# Altium integrated library Linear Technology PMIC-Switching Reg LT1074-LT8705.IntLib: 2252 symbols (part 32 of 124)
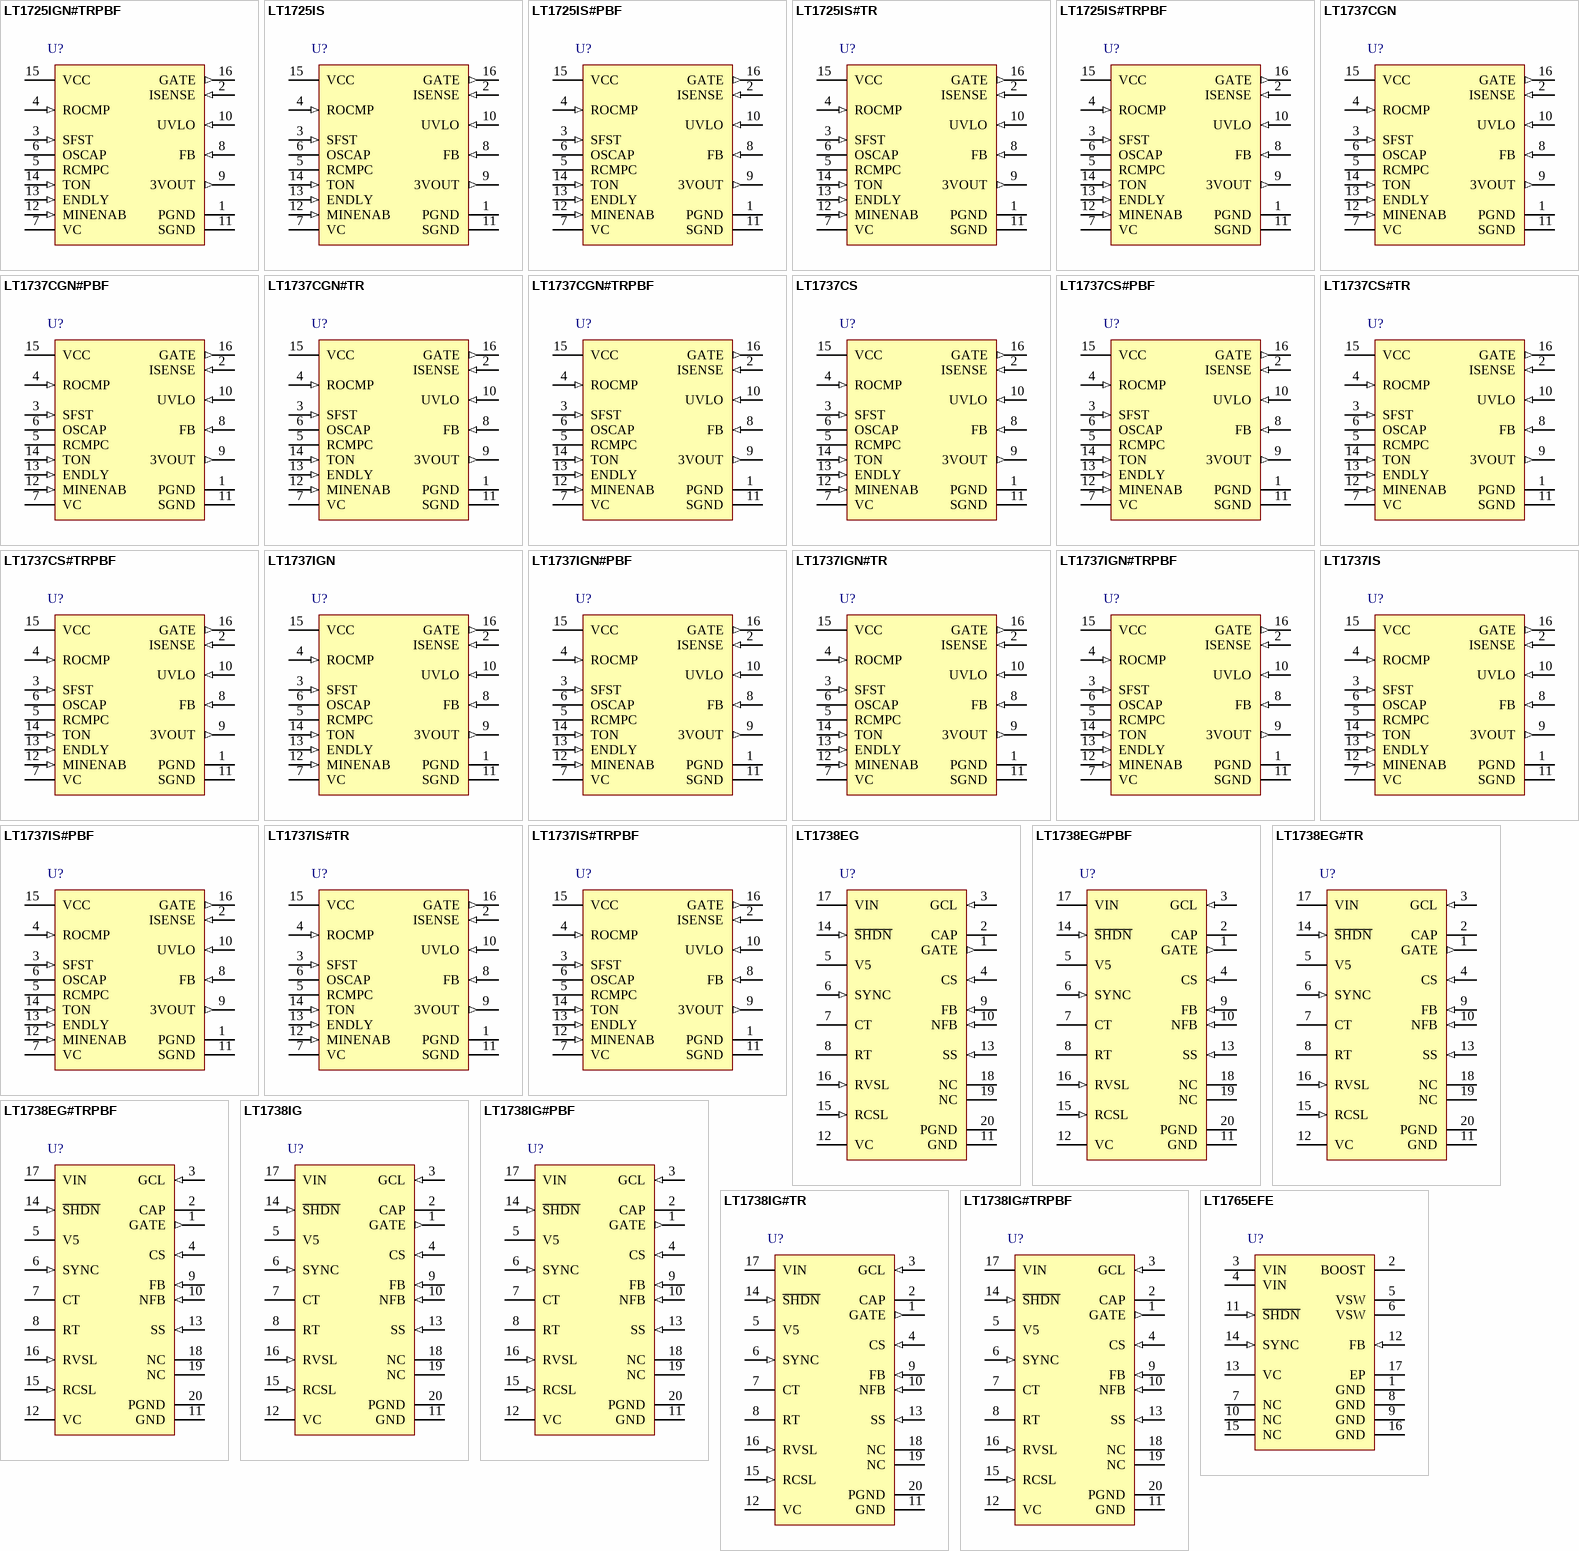
[diagram p102: symbols LT1725IGN#TRPBF to LT1765EFE]

## LT1738EG
designator U?
Slew Rate Controlled Ultralow Noise DC/DC Controller, 20-pin SOP (G-20), -40 to 125 degC; Manufacturer: Linear Technology; PartNumber: LT1738EG; Number of Outputs: 1; PackageReference: G-20; PackageDescription: 20-Pin Plastic SSOP, Body 7.2 x 5.3 mm, Pitch 0.65 mm; Supplier 1: Digi-Key; Supplier Part Number 1: LT1738EG-ND; RoHS: FALSE
footprint LT-G-20_N (SOP, 20-Leads, Body 7.2x5.3mm, Pitch 0.65mm, IPC Medium Density)
footprint LT-G-20_L (SOP, 20-Leads, Body 7.2x5.3mm, Pitch 0.65mm, IPC High Density)
footprint LT-G-20_M (SOP, 20-Leads, Body 7.2x5.3mm, Pitch 0.65mm, IPC Low Density)
pins: 1 GATE (out) "This pin connects to the gate of an external N-channel MOSFET. This driver is capable of sinking and sourcing at least 300mA. The GCL pin sets the upper voltage of the gate drive. The GATE pin will not be activated until VIN (See Datasheet)", 2 CAP "This pin is the feedback node for the external voltage slewing capacitor. Normally a small 1pf to 5pf capacitor is connected from this pin to the drain of the MOSFET. The voltage slew rate is inversely proportional to this (See Datasheet)", 3 GCL (in) "This pin sets the maximum gate voltage to the GATE pin to the MOSFET gate drive. This pin should be either tied to a zener, a voltage source, or VIN. If the pin is tied to a zener or a voltage source, the maximum gate drive (See Datasheet)", 4 CS (in) "This is the input to the current sense amplifier. It is used for both current mode control and current slewing of the external MOSFET. Current sense is accomplished via a sense resistor (RS) connected from the source of the (See Datasheet)", 5 V5 (power) "This pin provides a 5V output that can sink or source 10mA for use by external components. V5 source current comes from VIN . Sink current goes to GND. VIN must be greater than 6.5V in order for this voltage to be in (See Datasheet)", 6 SYNC (in) "The SYNC pin can be used to synchronize the part to an external clock. The oscillator frequency should be set close to the external clock frequency. Synchronizing the clock to an external reference is useful for creating (See Datasheet)", 7 CT "The oscillator capacitor pin is used in conjunction with RT to set the oscillator frequency. For RT = 16.9k: COSC(nf) = 129/fOSC(kHz)", 8 RT "A resistor to ground sets the charge and discharge currents of the oscillator capacitor. The nominal value is 16.9k. It is possible to adjust this resistance +/-25% to set oscillator frequency more accurately.", 9 FB (in) "The feedback pin is used for positive voltage sensing. It is the inverting input to the error amplifier. The noninverting input of this amplifier connects internally to a 1.25V reference. If the voltage on this pin exceeds (See Datasheet)", 10 NFB (in) "The negative feedback pin is used for sensing a negative output voltage. The pin is connected to the inverting input of the negative feedback amplifier through a 100k source resistor. The negative feedback amplifier provides (See Datasheet)", 11 GND (power) "Signal Ground. The internal error amplifier, negative feedback amplifier, oscillator, slew control circuitry, V5 regulator, current sense and the bandgap reference are referred to this ground. Keep the connection to this (See Datasheet)", 12 VC "The compensation pin is used for frequency compensation and current limiting. It is the output of the error amplifier and the input of the current comparator. Loop frequency compensation can be performed with an RC network (See Datasheet)", 13 SS (in) "The SS pin allows for ramping of the switch current threshold at startup. Normally a capacitor is placed on this pin to ground. An internal 9mA current source will charge this capacitor up. The voltage on the VC pin cannot (See Datasheet)", 14 ~{SHDN} (in) "The shutdown pin can disable the switcher. Grounding this pin will disable all internal circuitry. Increasing S\H\D\N\ voltage will initially turn on the internal bandgap regulator. This provides a precision threshold for (See Datasheet)", 15 RCSL (in) "A resistor to ground sets the current slew rate for the external drive MOSFET during switching. The minimum resistor value is 3.3k and the maximum value is 68k. The time to slew between on and off states of the MOSFET (See Datasheet)", 16 RVSL (in) "A resistor to ground sets the voltage slew rate for the drain of the external drive MOSFET. The minimum resistor value is 3.3k and the maximum value is 68k. The time to slew between on and off states on the MOSFET drain (See Datasheet)", 17 VIN (power) "Input Supply. All supply current for the part comes from this pin including gate drive and V5 regulator. Charge current for gate drive can produce current pulses of hundreds of milliamperes. Bypass this pin with a low ESR (See Datasheet)", 18 NC, 19 NC, 20 PGND (power) "Power Driver Ground. This ground comes from the MOSFET gate driver. This pin can have several hundred milliamperes of current on it when the external MOSFET is being turned off."

## LT1738EG#PBF
designator U?
Slew Rate Controlled Ultralow Noise DC/DC Controller, 20-pin SOP (G-20), -40 to 125 degC, Pb-Free; Manufacturer: Linear Technology; PartNumber: LT1738EG#PBF; Number of Outputs: 1; PackageReference: G-20; PackageDescription: 20-Pin Plastic SSOP, Body 7.2 x 5.3 mm, Pitch 0.65 mm; Supplier 1: Digi-Key; Supplier Part Number 1: LT1738EG#PBF-ND; RoHS: TRUE
footprint LT-G-20_N (SOP, 20-Leads, Body 7.2x5.3mm, Pitch 0.65mm, IPC Medium Density)
footprint LT-G-20_L (SOP, 20-Leads, Body 7.2x5.3mm, Pitch 0.65mm, IPC High Density)
footprint LT-G-20_M (SOP, 20-Leads, Body 7.2x5.3mm, Pitch 0.65mm, IPC Low Density)
pins: 1 GATE (out) "This pin connects to the gate of an external N-channel MOSFET. This driver is capable of sinking and sourcing at least 300mA. The GCL pin sets the upper voltage of the gate drive. The GATE pin will not be activated until VIN (See Datasheet)", 2 CAP "This pin is the feedback node for the external voltage slewing capacitor. Normally a small 1pf to 5pf capacitor is connected from this pin to the drain of the MOSFET. The voltage slew rate is inversely proportional to this (See Datasheet)", 3 GCL (in) "This pin sets the maximum gate voltage to the GATE pin to the MOSFET gate drive. This pin should be either tied to a zener, a voltage source, or VIN. If the pin is tied to a zener or a voltage source, the maximum gate drive (See Datasheet)", 4 CS (in) "This is the input to the current sense amplifier. It is used for both current mode control and current slewing of the external MOSFET. Current sense is accomplished via a sense resistor (RS) connected from the source of the (See Datasheet)", 5 V5 (power) "This pin provides a 5V output that can sink or source 10mA for use by external components. V5 source current comes from VIN . Sink current goes to GND. VIN must be greater than 6.5V in order for this voltage to be in (See Datasheet)", 6 SYNC (in) "The SYNC pin can be used to synchronize the part to an external clock. The oscillator frequency should be set close to the external clock frequency. Synchronizing the clock to an external reference is useful for creating (See Datasheet)", 7 CT "The oscillator capacitor pin is used in conjunction with RT to set the oscillator frequency. For RT = 16.9k: COSC(nf) = 129/fOSC(kHz)", 8 RT "A resistor to ground sets the charge and discharge currents of the oscillator capacitor. The nominal value is 16.9k. It is possible to adjust this resistance +/-25% to set oscillator frequency more accurately.", 9 FB (in) "The feedback pin is used for positive voltage sensing. It is the inverting input to the error amplifier. The noninverting input of this amplifier connects internally to a 1.25V reference. If the voltage on this pin exceeds (See Datasheet)", 10 NFB (in) "The negative feedback pin is used for sensing a negative output voltage. The pin is connected to the inverting input of the negative feedback amplifier through a 100k source resistor. The negative feedback amplifier provides (See Datasheet)", 11 GND (power) "Signal Ground. The internal error amplifier, negative feedback amplifier, oscillator, slew control circuitry, V5 regulator, current sense and the bandgap reference are referred to this ground. Keep the connection to this (See Datasheet)", 12 VC "The compensation pin is used for frequency compensation and current limiting. It is the output of the error amplifier and the input of the current comparator. Loop frequency compensation can be performed with an RC network (See Datasheet)", 13 SS (in) "The SS pin allows for ramping of the switch current threshold at startup. Normally a capacitor is placed on this pin to ground. An internal 9mA current source will charge this capacitor up. The voltage on the VC pin cannot (See Datasheet)", 14 ~{SHDN} (in) "The shutdown pin can disable the switcher. Grounding this pin will disable all internal circuitry. Increasing S\H\D\N\ voltage will initially turn on the internal bandgap regulator. This provides a precision threshold for (See Datasheet)", 15 RCSL (in) "A resistor to ground sets the current slew rate for the external drive MOSFET during switching. The minimum resistor value is 3.3k and the maximum value is 68k. The time to slew between on and off states of the MOSFET (See Datasheet)", 16 RVSL (in) "A resistor to ground sets the voltage slew rate for the drain of the external drive MOSFET. The minimum resistor value is 3.3k and the maximum value is 68k. The time to slew between on and off states on the MOSFET drain (See Datasheet)", 17 VIN (power) "Input Supply. All supply current for the part comes from this pin including gate drive and V5 regulator. Charge current for gate drive can produce current pulses of hundreds of milliamperes. Bypass this pin with a low ESR (See Datasheet)", 18 NC, 19 NC, 20 PGND (power) "Power Driver Ground. This ground comes from the MOSFET gate driver. This pin can have several hundred milliamperes of current on it when the external MOSFET is being turned off."

## LT1738EG#TR
designator U?
Slew Rate Controlled Ultralow Noise DC/DC Controller, 20-pin SOP (G-20), -40 to 125 degC, Tape and Reel; Manufacturer: Linear Technology; PartNumber: LT1738EG#TR; Number of Outputs: 1; PackageReference: G-20; PackageDescription: 20-Pin Plastic SSOP, Body 7.2 x 5.3 mm, Pitch 0.65 mm; Supplier 1: Digi-Key; Supplier Part Number 1: LT1738EGTR-ND; RoHS: FALSE
footprint LT-G-20_N (SOP, 20-Leads, Body 7.2x5.3mm, Pitch 0.65mm, IPC Medium Density)
footprint LT-G-20_L (SOP, 20-Leads, Body 7.2x5.3mm, Pitch 0.65mm, IPC High Density)
footprint LT-G-20_M (SOP, 20-Leads, Body 7.2x5.3mm, Pitch 0.65mm, IPC Low Density)
pins: 1 GATE (out) "This pin connects to the gate of an external N-channel MOSFET. This driver is capable of sinking and sourcing at least 300mA. The GCL pin sets the upper voltage of the gate drive. The GATE pin will not be activated until VIN (See Datasheet)", 2 CAP "This pin is the feedback node for the external voltage slewing capacitor. Normally a small 1pf to 5pf capacitor is connected from this pin to the drain of the MOSFET. The voltage slew rate is inversely proportional to this (See Datasheet)", 3 GCL (in) "This pin sets the maximum gate voltage to the GATE pin to the MOSFET gate drive. This pin should be either tied to a zener, a voltage source, or VIN. If the pin is tied to a zener or a voltage source, the maximum gate drive (See Datasheet)", 4 CS (in) "This is the input to the current sense amplifier. It is used for both current mode control and current slewing of the external MOSFET. Current sense is accomplished via a sense resistor (RS) connected from the source of the (See Datasheet)", 5 V5 (power) "This pin provides a 5V output that can sink or source 10mA for use by external components. V5 source current comes from VIN . Sink current goes to GND. VIN must be greater than 6.5V in order for this voltage to be in (See Datasheet)", 6 SYNC (in) "The SYNC pin can be used to synchronize the part to an external clock. The oscillator frequency should be set close to the external clock frequency. Synchronizing the clock to an external reference is useful for creating (See Datasheet)", 7 CT "The oscillator capacitor pin is used in conjunction with RT to set the oscillator frequency. For RT = 16.9k: COSC(nf) = 129/fOSC(kHz)", 8 RT "A resistor to ground sets the charge and discharge currents of the oscillator capacitor. The nominal value is 16.9k. It is possible to adjust this resistance +/-25% to set oscillator frequency more accurately.", 9 FB (in) "The feedback pin is used for positive voltage sensing. It is the inverting input to the error amplifier. The noninverting input of this amplifier connects internally to a 1.25V reference. If the voltage on this pin exceeds (See Datasheet)", 10 NFB (in) "The negative feedback pin is used for sensing a negative output voltage. The pin is connected to the inverting input of the negative feedback amplifier through a 100k source resistor. The negative feedback amplifier provides (See Datasheet)", 11 GND (power) "Signal Ground. The internal error amplifier, negative feedback amplifier, oscillator, slew control circuitry, V5 regulator, current sense and the bandgap reference are referred to this ground. Keep the connection to this (See Datasheet)", 12 VC "The compensation pin is used for frequency compensation and current limiting. It is the output of the error amplifier and the input of the current comparator. Loop frequency compensation can be performed with an RC network (See Datasheet)", 13 SS (in) "The SS pin allows for ramping of the switch current threshold at startup. Normally a capacitor is placed on this pin to ground. An internal 9mA current source will charge this capacitor up. The voltage on the VC pin cannot (See Datasheet)", 14 ~{SHDN} (in) "The shutdown pin can disable the switcher. Grounding this pin will disable all internal circuitry. Increasing S\H\D\N\ voltage will initially turn on the internal bandgap regulator. This provides a precision threshold for (See Datasheet)", 15 RCSL (in) "A resistor to ground sets the current slew rate for the external drive MOSFET during switching. The minimum resistor value is 3.3k and the maximum value is 68k. The time to slew between on and off states of the MOSFET (See Datasheet)", 16 RVSL (in) "A resistor to ground sets the voltage slew rate for the drain of the external drive MOSFET. The minimum resistor value is 3.3k and the maximum value is 68k. The time to slew between on and off states on the MOSFET drain (See Datasheet)", 17 VIN (power) "Input Supply. All supply current for the part comes from this pin including gate drive and V5 regulator. Charge current for gate drive can produce current pulses of hundreds of milliamperes. Bypass this pin with a low ESR (See Datasheet)", 18 NC, 19 NC, 20 PGND (power) "Power Driver Ground. This ground comes from the MOSFET gate driver. This pin can have several hundred milliamperes of current on it when the external MOSFET is being turned off."

## LT1738EG#TRPBF
designator U?
Slew Rate Controlled Ultralow Noise DC/DC Controller, 20-pin SOP (G-20), -40 to 125 degC, Pb-Free, Tape and Reel; Manufacturer: Linear Technology; PartNumber: LT1738EG#TRPBF; Number of Outputs: 1; PackageReference: G-20; PackageDescription: 20-Pin Plastic SSOP, Body 7.2 x 5.3 mm, Pitch 0.65 mm; Supplier 1: Digi-Key; Supplier Part Number 1: LT1738EG#TRPBF-ND; RoHS: TRUE
footprint LT-G-20_N (SOP, 20-Leads, Body 7.2x5.3mm, Pitch 0.65mm, IPC Medium Density)
footprint LT-G-20_L (SOP, 20-Leads, Body 7.2x5.3mm, Pitch 0.65mm, IPC High Density)
footprint LT-G-20_M (SOP, 20-Leads, Body 7.2x5.3mm, Pitch 0.65mm, IPC Low Density)
pins: 1 GATE (out) "This pin connects to the gate of an external N-channel MOSFET. This driver is capable of sinking and sourcing at least 300mA. The GCL pin sets the upper voltage of the gate drive. The GATE pin will not be activated until VIN (See Datasheet)", 2 CAP "This pin is the feedback node for the external voltage slewing capacitor. Normally a small 1pf to 5pf capacitor is connected from this pin to the drain of the MOSFET. The voltage slew rate is inversely proportional to this (See Datasheet)", 3 GCL (in) "This pin sets the maximum gate voltage to the GATE pin to the MOSFET gate drive. This pin should be either tied to a zener, a voltage source, or VIN. If the pin is tied to a zener or a voltage source, the maximum gate drive (See Datasheet)", 4 CS (in) "This is the input to the current sense amplifier. It is used for both current mode control and current slewing of the external MOSFET. Current sense is accomplished via a sense resistor (RS) connected from the source of the (See Datasheet)", 5 V5 (power) "This pin provides a 5V output that can sink or source 10mA for use by external components. V5 source current comes from VIN . Sink current goes to GND. VIN must be greater than 6.5V in order for this voltage to be in (See Datasheet)", 6 SYNC (in) "The SYNC pin can be used to synchronize the part to an external clock. The oscillator frequency should be set close to the external clock frequency. Synchronizing the clock to an external reference is useful for creating (See Datasheet)", 7 CT "The oscillator capacitor pin is used in conjunction with RT to set the oscillator frequency. For RT = 16.9k: COSC(nf) = 129/fOSC(kHz)", 8 RT "A resistor to ground sets the charge and discharge currents of the oscillator capacitor. The nominal value is 16.9k. It is possible to adjust this resistance +/-25% to set oscillator frequency more accurately.", 9 FB (in) "The feedback pin is used for positive voltage sensing. It is the inverting input to the error amplifier. The noninverting input of this amplifier connects internally to a 1.25V reference. If the voltage on this pin exceeds (See Datasheet)", 10 NFB (in) "The negative feedback pin is used for sensing a negative output voltage. The pin is connected to the inverting input of the negative feedback amplifier through a 100k source resistor. The negative feedback amplifier provides (See Datasheet)", 11 GND (power) "Signal Ground. The internal error amplifier, negative feedback amplifier, oscillator, slew control circuitry, V5 regulator, current sense and the bandgap reference are referred to this ground. Keep the connection to this (See Datasheet)", 12 VC "The compensation pin is used for frequency compensation and current limiting. It is the output of the error amplifier and the input of the current comparator. Loop frequency compensation can be performed with an RC network (See Datasheet)", 13 SS (in) "The SS pin allows for ramping of the switch current threshold at startup. Normally a capacitor is placed on this pin to ground. An internal 9mA current source will charge this capacitor up. The voltage on the VC pin cannot (See Datasheet)", 14 ~{SHDN} (in) "The shutdown pin can disable the switcher. Grounding this pin will disable all internal circuitry. Increasing S\H\D\N\ voltage will initially turn on the internal bandgap regulator. This provides a precision threshold for (See Datasheet)", 15 RCSL (in) "A resistor to ground sets the current slew rate for the external drive MOSFET during switching. The minimum resistor value is 3.3k and the maximum value is 68k. The time to slew between on and off states of the MOSFET (See Datasheet)", 16 RVSL (in) "A resistor to ground sets the voltage slew rate for the drain of the external drive MOSFET. The minimum resistor value is 3.3k and the maximum value is 68k. The time to slew between on and off states on the MOSFET drain (See Datasheet)", 17 VIN (power) "Input Supply. All supply current for the part comes from this pin including gate drive and V5 regulator. Charge current for gate drive can produce current pulses of hundreds of milliamperes. Bypass this pin with a low ESR (See Datasheet)", 18 NC, 19 NC, 20 PGND (power) "Power Driver Ground. This ground comes from the MOSFET gate driver. This pin can have several hundred milliamperes of current on it when the external MOSFET is being turned off."

## LT1738IG
designator U?
Slew Rate Controlled Ultralow Noise DC/DC Controller, 20-pin SOP (G-20), -40 to 125 degC; Manufacturer: Linear Technology; PartNumber: LT1738IG; Number of Outputs: 1; PackageReference: G-20; PackageDescription: 20-Pin Plastic SSOP, Body 7.2 x 5.3 mm, Pitch 0.65 mm; Supplier 1: Digi-Key; Supplier Part Number 1: LT1738IG-ND; RoHS: FALSE
footprint LT-G-20_N (SOP, 20-Leads, Body 7.2x5.3mm, Pitch 0.65mm, IPC Medium Density)
footprint LT-G-20_L (SOP, 20-Leads, Body 7.2x5.3mm, Pitch 0.65mm, IPC High Density)
footprint LT-G-20_M (SOP, 20-Leads, Body 7.2x5.3mm, Pitch 0.65mm, IPC Low Density)
pins: 1 GATE (out) "This pin connects to the gate of an external N-channel MOSFET. This driver is capable of sinking and sourcing at least 300mA. The GCL pin sets the upper voltage of the gate drive. The GATE pin will not be activated until VIN (See Datasheet)", 2 CAP "This pin is the feedback node for the external voltage slewing capacitor. Normally a small 1pf to 5pf capacitor is connected from this pin to the drain of the MOSFET. The voltage slew rate is inversely proportional to this (See Datasheet)", 3 GCL (in) "This pin sets the maximum gate voltage to the GATE pin to the MOSFET gate drive. This pin should be either tied to a zener, a voltage source, or VIN. If the pin is tied to a zener or a voltage source, the maximum gate drive (See Datasheet)", 4 CS (in) "This is the input to the current sense amplifier. It is used for both current mode control and current slewing of the external MOSFET. Current sense is accomplished via a sense resistor (RS) connected from the source of the (See Datasheet)", 5 V5 (power) "This pin provides a 5V output that can sink or source 10mA for use by external components. V5 source current comes from VIN . Sink current goes to GND. VIN must be greater than 6.5V in order for this voltage to be in (See Datasheet)", 6 SYNC (in) "The SYNC pin can be used to synchronize the part to an external clock. The oscillator frequency should be set close to the external clock frequency. Synchronizing the clock to an external reference is useful for creating (See Datasheet)", 7 CT "The oscillator capacitor pin is used in conjunction with RT to set the oscillator frequency. For RT = 16.9k: COSC(nf) = 129/fOSC(kHz)", 8 RT "A resistor to ground sets the charge and discharge currents of the oscillator capacitor. The nominal value is 16.9k. It is possible to adjust this resistance +/-25% to set oscillator frequency more accurately.", 9 FB (in) "The feedback pin is used for positive voltage sensing. It is the inverting input to the error amplifier. The noninverting input of this amplifier connects internally to a 1.25V reference. If the voltage on this pin exceeds (See Datasheet)", 10 NFB (in) "The negative feedback pin is used for sensing a negative output voltage. The pin is connected to the inverting input of the negative feedback amplifier through a 100k source resistor. The negative feedback amplifier provides (See Datasheet)", 11 GND (power) "Signal Ground. The internal error amplifier, negative feedback amplifier, oscillator, slew control circuitry, V5 regulator, current sense and the bandgap reference are referred to this ground. Keep the connection to this (See Datasheet)", 12 VC "The compensation pin is used for frequency compensation and current limiting. It is the output of the error amplifier and the input of the current comparator. Loop frequency compensation can be performed with an RC network (See Datasheet)", 13 SS (in) "The SS pin allows for ramping of the switch current threshold at startup. Normally a capacitor is placed on this pin to ground. An internal 9mA current source will charge this capacitor up. The voltage on the VC pin cannot (See Datasheet)", 14 ~{SHDN} (in) "The shutdown pin can disable the switcher. Grounding this pin will disable all internal circuitry. Increasing S\H\D\N\ voltage will initially turn on the internal bandgap regulator. This provides a precision threshold for (See Datasheet)", 15 RCSL (in) "A resistor to ground sets the current slew rate for the external drive MOSFET during switching. The minimum resistor value is 3.3k and the maximum value is 68k. The time to slew between on and off states of the MOSFET (See Datasheet)", 16 RVSL (in) "A resistor to ground sets the voltage slew rate for the drain of the external drive MOSFET. The minimum resistor value is 3.3k and the maximum value is 68k. The time to slew between on and off states on the MOSFET drain (See Datasheet)", 17 VIN (power) "Input Supply. All supply current for the part comes from this pin including gate drive and V5 regulator. Charge current for gate drive can produce current pulses of hundreds of milliamperes. Bypass this pin with a low ESR (See Datasheet)", 18 NC, 19 NC, 20 PGND (power) "Power Driver Ground. This ground comes from the MOSFET gate driver. This pin can have several hundred milliamperes of current on it when the external MOSFET is being turned off."

## LT1738IG#PBF
designator U?
Slew Rate Controlled Ultralow Noise DC/DC Controller, 20-pin SOP (G-20), -40 to 125 degC, Pb-Free; Manufacturer: Linear Technology; PartNumber: LT1738IG#PBF; Number of Outputs: 1; PackageReference: G-20; PackageDescription: 20-Pin Plastic SSOP, Body 7.2 x 5.3 mm, Pitch 0.65 mm; Supplier 1: Digi-Key; Supplier Part Number 1: LT1738IG#PBF-ND; RoHS: TRUE
footprint LT-G-20_N (SOP, 20-Leads, Body 7.2x5.3mm, Pitch 0.65mm, IPC Medium Density)
footprint LT-G-20_L (SOP, 20-Leads, Body 7.2x5.3mm, Pitch 0.65mm, IPC High Density)
footprint LT-G-20_M (SOP, 20-Leads, Body 7.2x5.3mm, Pitch 0.65mm, IPC Low Density)
pins: 1 GATE (out) "This pin connects to the gate of an external N-channel MOSFET. This driver is capable of sinking and sourcing at least 300mA. The GCL pin sets the upper voltage of the gate drive. The GATE pin will not be activated until VIN (See Datasheet)", 2 CAP "This pin is the feedback node for the external voltage slewing capacitor. Normally a small 1pf to 5pf capacitor is connected from this pin to the drain of the MOSFET. The voltage slew rate is inversely proportional to this (See Datasheet)", 3 GCL (in) "This pin sets the maximum gate voltage to the GATE pin to the MOSFET gate drive. This pin should be either tied to a zener, a voltage source, or VIN. If the pin is tied to a zener or a voltage source, the maximum gate drive (See Datasheet)", 4 CS (in) "This is the input to the current sense amplifier. It is used for both current mode control and current slewing of the external MOSFET. Current sense is accomplished via a sense resistor (RS) connected from the source of the (See Datasheet)", 5 V5 (power) "This pin provides a 5V output that can sink or source 10mA for use by external components. V5 source current comes from VIN . Sink current goes to GND. VIN must be greater than 6.5V in order for this voltage to be in (See Datasheet)", 6 SYNC (in) "The SYNC pin can be used to synchronize the part to an external clock. The oscillator frequency should be set close to the external clock frequency. Synchronizing the clock to an external reference is useful for creating (See Datasheet)", 7 CT "The oscillator capacitor pin is used in conjunction with RT to set the oscillator frequency. For RT = 16.9k: COSC(nf) = 129/fOSC(kHz)", 8 RT "A resistor to ground sets the charge and discharge currents of the oscillator capacitor. The nominal value is 16.9k. It is possible to adjust this resistance +/-25% to set oscillator frequency more accurately.", 9 FB (in) "The feedback pin is used for positive voltage sensing. It is the inverting input to the error amplifier. The noninverting input of this amplifier connects internally to a 1.25V reference. If the voltage on this pin exceeds (See Datasheet)", 10 NFB (in) "The negative feedback pin is used for sensing a negative output voltage. The pin is connected to the inverting input of the negative feedback amplifier through a 100k source resistor. The negative feedback amplifier provides (See Datasheet)", 11 GND (power) "Signal Ground. The internal error amplifier, negative feedback amplifier, oscillator, slew control circuitry, V5 regulator, current sense and the bandgap reference are referred to this ground. Keep the connection to this (See Datasheet)", 12 VC "The compensation pin is used for frequency compensation and current limiting. It is the output of the error amplifier and the input of the current comparator. Loop frequency compensation can be performed with an RC network (See Datasheet)", 13 SS (in) "The SS pin allows for ramping of the switch current threshold at startup. Normally a capacitor is placed on this pin to ground. An internal 9mA current source will charge this capacitor up. The voltage on the VC pin cannot (See Datasheet)", 14 ~{SHDN} (in) "The shutdown pin can disable the switcher. Grounding this pin will disable all internal circuitry. Increasing S\H\D\N\ voltage will initially turn on the internal bandgap regulator. This provides a precision threshold for (See Datasheet)", 15 RCSL (in) "A resistor to ground sets the current slew rate for the external drive MOSFET during switching. The minimum resistor value is 3.3k and the maximum value is 68k. The time to slew between on and off states of the MOSFET (See Datasheet)", 16 RVSL (in) "A resistor to ground sets the voltage slew rate for the drain of the external drive MOSFET. The minimum resistor value is 3.3k and the maximum value is 68k. The time to slew between on and off states on the MOSFET drain (See Datasheet)", 17 VIN (power) "Input Supply. All supply current for the part comes from this pin including gate drive and V5 regulator. Charge current for gate drive can produce current pulses of hundreds of milliamperes. Bypass this pin with a low ESR (See Datasheet)", 18 NC, 19 NC, 20 PGND (power) "Power Driver Ground. This ground comes from the MOSFET gate driver. This pin can have several hundred milliamperes of current on it when the external MOSFET is being turned off."

## LT1738IG#TR
designator U?
Slew Rate Controlled Ultralow Noise DC/DC Controller, 20-pin SOP (G-20), -40 to 125 degC, Tape and Reel; Manufacturer: Linear Technology; PartNumber: LT1738IG#TR; Number of Outputs: 1; PackageReference: G-20; PackageDescription: 20-Pin Plastic SSOP, Body 7.2 x 5.3 mm, Pitch 0.65 mm; Supplier 1: Digi-Key; Supplier Part Number 1: LT1738IGTR-ND; RoHS: FALSE
footprint LT-G-20_N (SOP, 20-Leads, Body 7.2x5.3mm, Pitch 0.65mm, IPC Medium Density)
footprint LT-G-20_L (SOP, 20-Leads, Body 7.2x5.3mm, Pitch 0.65mm, IPC High Density)
footprint LT-G-20_M (SOP, 20-Leads, Body 7.2x5.3mm, Pitch 0.65mm, IPC Low Density)
pins: 1 GATE (out) "This pin connects to the gate of an external N-channel MOSFET. This driver is capable of sinking and sourcing at least 300mA. The GCL pin sets the upper voltage of the gate drive. The GATE pin will not be activated until VIN (See Datasheet)", 2 CAP "This pin is the feedback node for the external voltage slewing capacitor. Normally a small 1pf to 5pf capacitor is connected from this pin to the drain of the MOSFET. The voltage slew rate is inversely proportional to this (See Datasheet)", 3 GCL (in) "This pin sets the maximum gate voltage to the GATE pin to the MOSFET gate drive. This pin should be either tied to a zener, a voltage source, or VIN. If the pin is tied to a zener or a voltage source, the maximum gate drive (See Datasheet)", 4 CS (in) "This is the input to the current sense amplifier. It is used for both current mode control and current slewing of the external MOSFET. Current sense is accomplished via a sense resistor (RS) connected from the source of the (See Datasheet)", 5 V5 (power) "This pin provides a 5V output that can sink or source 10mA for use by external components. V5 source current comes from VIN . Sink current goes to GND. VIN must be greater than 6.5V in order for this voltage to be in (See Datasheet)", 6 SYNC (in) "The SYNC pin can be used to synchronize the part to an external clock. The oscillator frequency should be set close to the external clock frequency. Synchronizing the clock to an external reference is useful for creating (See Datasheet)", 7 CT "The oscillator capacitor pin is used in conjunction with RT to set the oscillator frequency. For RT = 16.9k: COSC(nf) = 129/fOSC(kHz)", 8 RT "A resistor to ground sets the charge and discharge currents of the oscillator capacitor. The nominal value is 16.9k. It is possible to adjust this resistance +/-25% to set oscillator frequency more accurately.", 9 FB (in) "The feedback pin is used for positive voltage sensing. It is the inverting input to the error amplifier. The noninverting input of this amplifier connects internally to a 1.25V reference. If the voltage on this pin exceeds (See Datasheet)", 10 NFB (in) "The negative feedback pin is used for sensing a negative output voltage. The pin is connected to the inverting input of the negative feedback amplifier through a 100k source resistor. The negative feedback amplifier provides (See Datasheet)", 11 GND (power) "Signal Ground. The internal error amplifier, negative feedback amplifier, oscillator, slew control circuitry, V5 regulator, current sense and the bandgap reference are referred to this ground. Keep the connection to this (See Datasheet)", 12 VC "The compensation pin is used for frequency compensation and current limiting. It is the output of the error amplifier and the input of the current comparator. Loop frequency compensation can be performed with an RC network (See Datasheet)", 13 SS (in) "The SS pin allows for ramping of the switch current threshold at startup. Normally a capacitor is placed on this pin to ground. An internal 9mA current source will charge this capacitor up. The voltage on the VC pin cannot (See Datasheet)", 14 ~{SHDN} (in) "The shutdown pin can disable the switcher. Grounding this pin will disable all internal circuitry. Increasing S\H\D\N\ voltage will initially turn on the internal bandgap regulator. This provides a precision threshold for (See Datasheet)", 15 RCSL (in) "A resistor to ground sets the current slew rate for the external drive MOSFET during switching. The minimum resistor value is 3.3k and the maximum value is 68k. The time to slew between on and off states of the MOSFET (See Datasheet)", 16 RVSL (in) "A resistor to ground sets the voltage slew rate for the drain of the external drive MOSFET. The minimum resistor value is 3.3k and the maximum value is 68k. The time to slew between on and off states on the MOSFET drain (See Datasheet)", 17 VIN (power) "Input Supply. All supply current for the part comes from this pin including gate drive and V5 regulator. Charge current for gate drive can produce current pulses of hundreds of milliamperes. Bypass this pin with a low ESR (See Datasheet)", 18 NC, 19 NC, 20 PGND (power) "Power Driver Ground. This ground comes from the MOSFET gate driver. This pin can have several hundred milliamperes of current on it when the external MOSFET is being turned off."

## LT1738IG#TRPBF
designator U?
Slew Rate Controlled Ultralow Noise DC/DC Controller, 20-pin SOP (G-20), -40 to 125 degC, Pb-Free, Tape and Reel; Manufacturer: Linear Technology; PartNumber: LT1738IG#TRPBF; Number of Outputs: 1; PackageReference: G-20; PackageDescription: 20-Pin Plastic SSOP, Body 7.2 x 5.3 mm, Pitch 0.65 mm; Supplier 1: Digi-Key; Supplier Part Number 1: LT1738IG#TRPBF-ND; RoHS: TRUE
footprint LT-G-20_N (SOP, 20-Leads, Body 7.2x5.3mm, Pitch 0.65mm, IPC Medium Density)
footprint LT-G-20_L (SOP, 20-Leads, Body 7.2x5.3mm, Pitch 0.65mm, IPC High Density)
footprint LT-G-20_M (SOP, 20-Leads, Body 7.2x5.3mm, Pitch 0.65mm, IPC Low Density)
pins: 1 GATE (out) "This pin connects to the gate of an external N-channel MOSFET. This driver is capable of sinking and sourcing at least 300mA. The GCL pin sets the upper voltage of the gate drive. The GATE pin will not be activated until VIN (See Datasheet)", 2 CAP "This pin is the feedback node for the external voltage slewing capacitor. Normally a small 1pf to 5pf capacitor is connected from this pin to the drain of the MOSFET. The voltage slew rate is inversely proportional to this (See Datasheet)", 3 GCL (in) "This pin sets the maximum gate voltage to the GATE pin to the MOSFET gate drive. This pin should be either tied to a zener, a voltage source, or VIN. If the pin is tied to a zener or a voltage source, the maximum gate drive (See Datasheet)", 4 CS (in) "This is the input to the current sense amplifier. It is used for both current mode control and current slewing of the external MOSFET. Current sense is accomplished via a sense resistor (RS) connected from the source of the (See Datasheet)", 5 V5 (power) "This pin provides a 5V output that can sink or source 10mA for use by external components. V5 source current comes from VIN . Sink current goes to GND. VIN must be greater than 6.5V in order for this voltage to be in (See Datasheet)", 6 SYNC (in) "The SYNC pin can be used to synchronize the part to an external clock. The oscillator frequency should be set close to the external clock frequency. Synchronizing the clock to an external reference is useful for creating (See Datasheet)", 7 CT "The oscillator capacitor pin is used in conjunction with RT to set the oscillator frequency. For RT = 16.9k: COSC(nf) = 129/fOSC(kHz)", 8 RT "A resistor to ground sets the charge and discharge currents of the oscillator capacitor. The nominal value is 16.9k. It is possible to adjust this resistance +/-25% to set oscillator frequency more accurately.", 9 FB (in) "The feedback pin is used for positive voltage sensing. It is the inverting input to the error amplifier. The noninverting input of this amplifier connects internally to a 1.25V reference. If the voltage on this pin exceeds (See Datasheet)", 10 NFB (in) "The negative feedback pin is used for sensing a negative output voltage. The pin is connected to the inverting input of the negative feedback amplifier through a 100k source resistor. The negative feedback amplifier provides (See Datasheet)", 11 GND (power) "Signal Ground. The internal error amplifier, negative feedback amplifier, oscillator, slew control circuitry, V5 regulator, current sense and the bandgap reference are referred to this ground. Keep the connection to this (See Datasheet)", 12 VC "The compensation pin is used for frequency compensation and current limiting. It is the output of the error amplifier and the input of the current comparator. Loop frequency compensation can be performed with an RC network (See Datasheet)", 13 SS (in) "The SS pin allows for ramping of the switch current threshold at startup. Normally a capacitor is placed on this pin to ground. An internal 9mA current source will charge this capacitor up. The voltage on the VC pin cannot (See Datasheet)", 14 ~{SHDN} (in) "The shutdown pin can disable the switcher. Grounding this pin will disable all internal circuitry. Increasing S\H\D\N\ voltage will initially turn on the internal bandgap regulator. This provides a precision threshold for (See Datasheet)", 15 RCSL (in) "A resistor to ground sets the current slew rate for the external drive MOSFET during switching. The minimum resistor value is 3.3k and the maximum value is 68k. The time to slew between on and off states of the MOSFET (See Datasheet)", 16 RVSL (in) "A resistor to ground sets the voltage slew rate for the drain of the external drive MOSFET. The minimum resistor value is 3.3k and the maximum value is 68k. The time to slew between on and off states on the MOSFET drain (See Datasheet)", 17 VIN (power) "Input Supply. All supply current for the part comes from this pin including gate drive and V5 regulator. Charge current for gate drive can produce current pulses of hundreds of milliamperes. Bypass this pin with a low ESR (See Datasheet)", 18 NC, 19 NC, 20 PGND (power) "Power Driver Ground. This ground comes from the MOSFET gate driver. This pin can have several hundred milliamperes of current on it when the external MOSFET is being turned off."

## LT1765EFE
designator U?
Monolithic 3 A, 1.25 MHz Step-Down Switching Regulator, 16-pin SOP (FE-16-EPV-BB), -40 to 125 degC; Manufacturer: Linear Technology; PartNumber: LT1765EFE; Number of Outputs: 1; PackageReference: FE-16; PackageDescription: 16-Pin Plastic TSSOP, Body 5 x 4.4 mm, Pitch 0.65 mm; Supplier 1: Digi-Key; Supplier Part Number 1: LT1765EFE-ND; RoHS: FALSE
footprint LT-FE-16-EPV-BB_N (SOP, 16-Leads, Body 5.1x4.5mm, Pitch 0.65mm, Thermal Pad 3.58x2.94mm, IPC Medium Density)
footprint LT-FE-16-EPV-BB_L (SOP, 16-Leads, Body 5.1x4.5mm, Pitch 0.65mm, Thermal Pad 3.58x2.94mm, IPC High Density)
footprint LT-FE-16-EPV-BB_M (SOP, 16-Leads, Body 5.1x4.5mm, Pitch 0.65mm, Thermal Pad 3.58x2.94mm, IPC Low Density)
pins: 1 GND (power) "The GND pin acts as the reference for the regulated output, so load regulation will suffer if the “ground?end of the load is not at the same voltage as the GND pin of the IC. This condition will occur when load curr(See Datasheet)", 2 BOOST "The BOOST pin is used to provide a drive voltage, higher than the input voltage, to the internal bipolar NPN power switch.", 3 VIN (power) "This is the collector of the on-chip power NPN switch. This pin powers the internal circuitry and internal regulator. At NPN switch on and off, high di/dt edges occur on this pin. Keep the external bypass capacitor and catch (See Datasheet)", 4 VIN (power) "This is the collector of the on-chip power NPN switch. This pin powers the internal circuitry and internal regulator. At NPN switch on and off, high di/dt edges occur on this pin. Keep the external bypass capacitor and catch (See Datasheet)", 5 VSW (power) "The switch pin is the emitter of the on-chip power NPN switch. This pin is driven up to the input pin voltage during switch on time. Inductor current drives the switch pin negative during switch off time. Negative voltage (See Datasheet)", 6 VSW (power) "The switch pin is the emitter of the on-chip power NPN switch. This pin is driven up to the input pin voltage during switch on time. Inductor current drives the switch pin negative during switch off time. Negative voltage (See Datasheet)", 7 NC, 8 GND (power) "The GND pin acts as the reference for the regulated output, so load regulation will suffer if the “ground?end of the load is not at the same voltage as the GND pin of the IC. This condition will occur when load curr(See Datasheet)", 9 GND (power) "The GND pin acts as the reference for the regulated output, so load regulation will suffer if the “ground?end of the load is not at the same voltage as the GND pin of the IC. This condition will occur when load curr(See Datasheet)", 10 NC, 11 ~{SHDN} (in) "The shutdown pin is used to turn off the regulator and to reduce input drain current to a few microamperes. The 1.33V threshold can function as an accurate undervoltage lockout (UVLO), preventing the regulator from operating (See Datasheet)", 12 FB (in) "The feedback pin is used to set output voltage using an external voltage divider (adjustable version) that generates 1.2V at the pin when connected to the desired output voltage. The fixed voltage 1.8V, 2.5V, 3.3V and 5V (See Datasheet)", 13 VC "The VC pin is the output of the error amplifier and the input of the peak switch current comparator. It is normally used for frequency compensation, but can do double duty as a current clamp or control loop override. This (See Datasheet)", 14 SYNC (in) "The sync pin is used to synchronize the internal oscillator to an external signal. It is directly logic compatible and can be driven with any signal between 20% and 80% duty cycle. The synchronizing range is from 1.6MHz to (See Datasheet)", 15 NC, 16 GND (power) "The GND pin acts as the reference for the regulated output, so load regulation will suffer if the “ground?end of the load is not at the same voltage as the GND pin of the IC. This condition will occur when load curr(See Datasheet)", 17 EP (power) "The exposed GND pad and/or GND pins of the package are directly attached to the internal tab. These pins/pad should be attached to a large copper area to reduce thermal resistance."

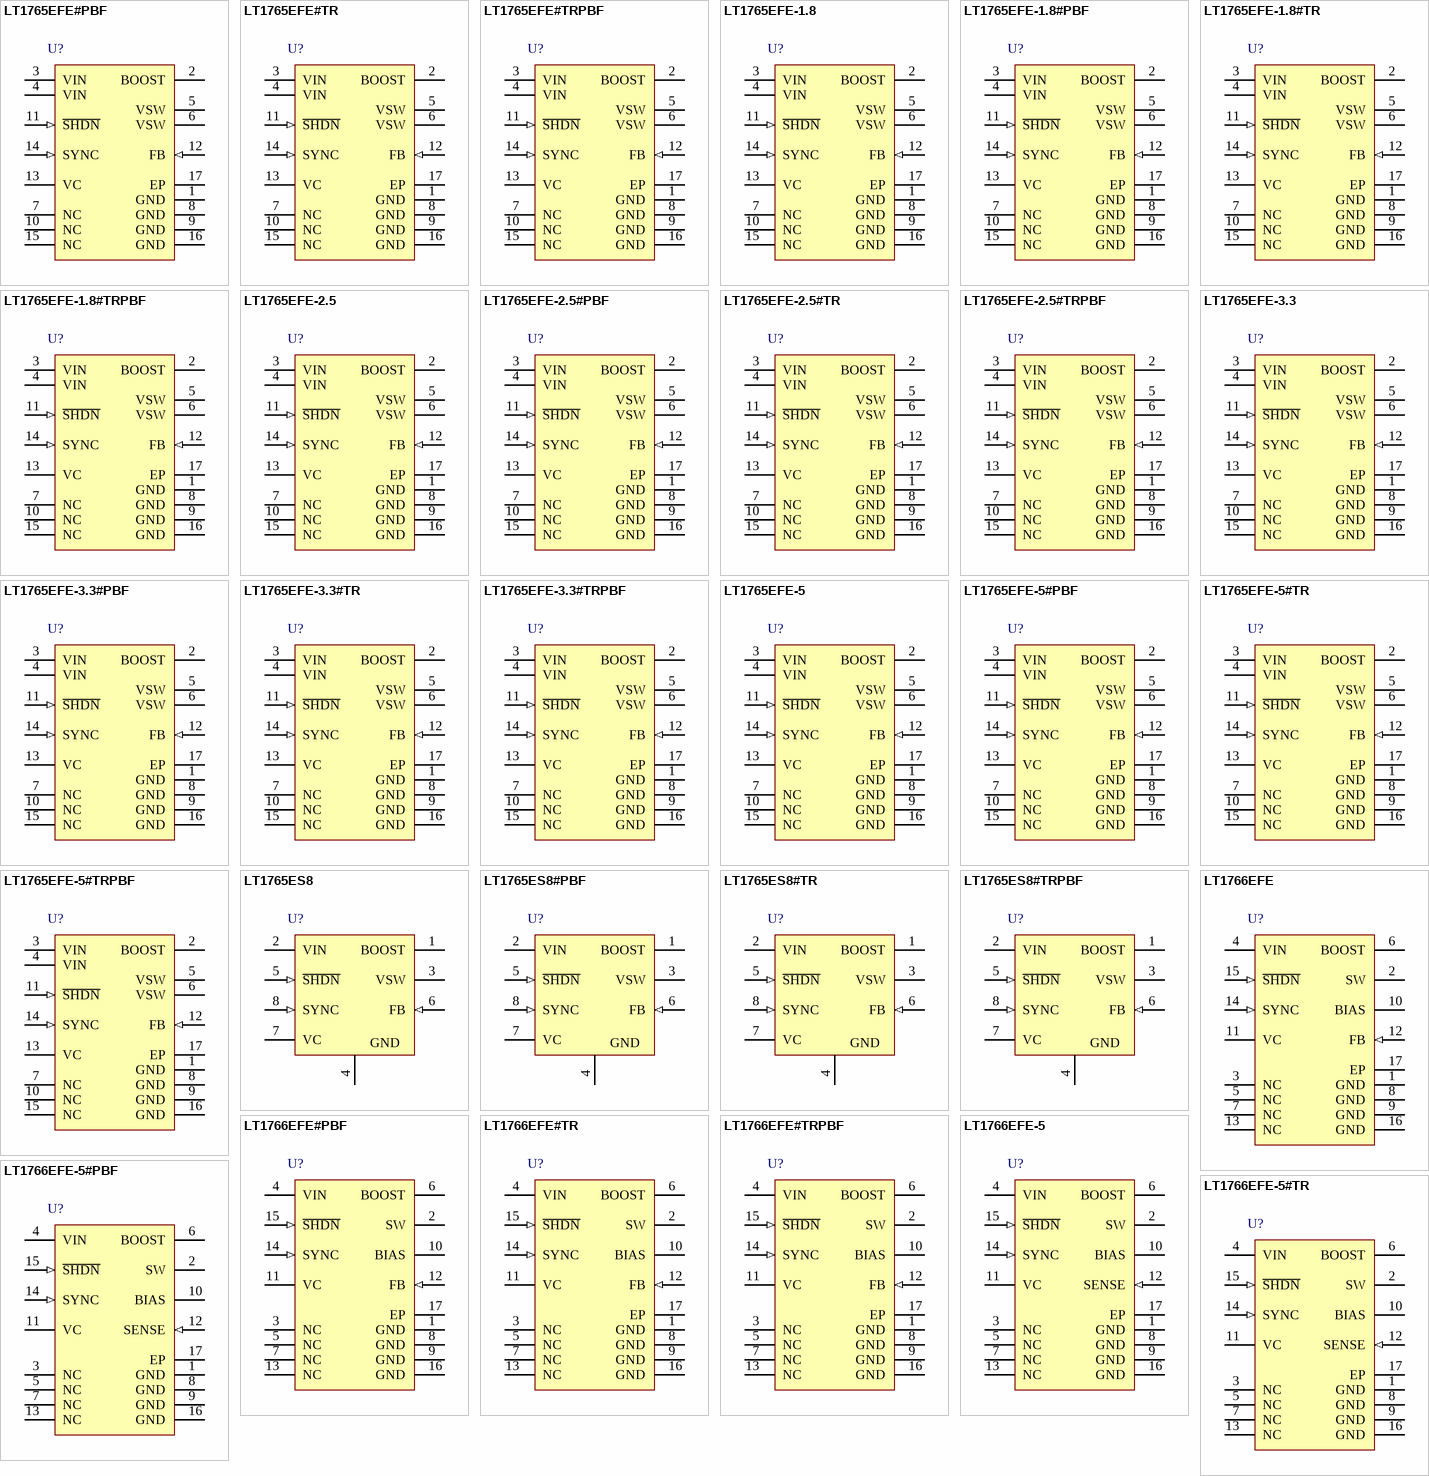
[diagram p21: symbols LT1765EFE#PBF to LT1766EFE-5#TR]

## LT1765EFE#PBF
designator U?
Monolithic 3 A, 1.25 MHz Step-Down Switching Regulator, 16-pin SOP (FE-16-EPV-BB), -40 to 125 degC, Pb-Free; Manufacturer: Linear Technology; PartNumber: LT1765EFE#PBF; Number of Outputs: 1; PackageReference: FE-16; PackageDescription: 16-Pin Plastic TSSOP, Body 5 x 4.4 mm, Pitch 0.65 mm; Supplier 1: Digi-Key; Supplier Part Number 1: LT1765EFE#PBF-ND; RoHS: TRUE
footprint LT-FE-16-EPV-BB_N (SOP, 16-Leads, Body 5.1x4.5mm, Pitch 0.65mm, Thermal Pad 3.58x2.94mm, IPC Medium Density)
footprint LT-FE-16-EPV-BB_L (SOP, 16-Leads, Body 5.1x4.5mm, Pitch 0.65mm, Thermal Pad 3.58x2.94mm, IPC High Density)
footprint LT-FE-16-EPV-BB_M (SOP, 16-Leads, Body 5.1x4.5mm, Pitch 0.65mm, Thermal Pad 3.58x2.94mm, IPC Low Density)
pins: 1 GND (power) "The GND pin acts as the reference for the regulated output, so load regulation will suffer if the “ground?end of the load is not at the same voltage as the GND pin of the IC. This condition will occur when load curr(See Datasheet)", 2 BOOST "The BOOST pin is used to provide a drive voltage, higher than the input voltage, to the internal bipolar NPN power switch.", 3 VIN (power) "This is the collector of the on-chip power NPN switch. This pin powers the internal circuitry and internal regulator. At NPN switch on and off, high di/dt edges occur on this pin. Keep the external bypass capacitor and catch (See Datasheet)", 4 VIN (power) "This is the collector of the on-chip power NPN switch. This pin powers the internal circuitry and internal regulator. At NPN switch on and off, high di/dt edges occur on this pin. Keep the external bypass capacitor and catch (See Datasheet)", 5 VSW (power) "The switch pin is the emitter of the on-chip power NPN switch. This pin is driven up to the input pin voltage during switch on time. Inductor current drives the switch pin negative during switch off time. Negative voltage (See Datasheet)", 6 VSW (power) "The switch pin is the emitter of the on-chip power NPN switch. This pin is driven up to the input pin voltage during switch on time. Inductor current drives the switch pin negative during switch off time. Negative voltage (See Datasheet)", 7 NC, 8 GND (power) "The GND pin acts as the reference for the regulated output, so load regulation will suffer if the “ground?end of the load is not at the same voltage as the GND pin of the IC. This condition will occur when load curr(See Datasheet)", 9 GND (power) "The GND pin acts as the reference for the regulated output, so load regulation will suffer if the “ground?end of the load is not at the same voltage as the GND pin of the IC. This condition will occur when load curr(See Datasheet)", 10 NC, 11 ~{SHDN} (in) "The shutdown pin is used to turn off the regulator and to reduce input drain current to a few microamperes. The 1.33V threshold can function as an accurate undervoltage lockout (UVLO), preventing the regulator from operating (See Datasheet)", 12 FB (in) "The feedback pin is used to set output voltage using an external voltage divider (adjustable version) that generates 1.2V at the pin when connected to the desired output voltage. The fixed voltage 1.8V, 2.5V, 3.3V and 5V (See Datasheet)", 13 VC "The VC pin is the output of the error amplifier and the input of the peak switch current comparator. It is normally used for frequency compensation, but can do double duty as a current clamp or control loop override. This (See Datasheet)", 14 SYNC (in) "The sync pin is used to synchronize the internal oscillator to an external signal. It is directly logic compatible and can be driven with any signal between 20% and 80% duty cycle. The synchronizing range is from 1.6MHz to (See Datasheet)", 15 NC, 16 GND (power) "The GND pin acts as the reference for the regulated output, so load regulation will suffer if the “ground?end of the load is not at the same voltage as the GND pin of the IC. This condition will occur when load curr(See Datasheet)", 17 EP (power) "The exposed GND pad and/or GND pins of the package are directly attached to the internal tab. These pins/pad should be attached to a large copper area to reduce thermal resistance."